# EAGLE library part ATTINY84A-SSF (library ATTINY84A-SSF)
Atmel ATTINY84A-SSF, 8bit AVR Microcontroller, 20MHz, 8 kB Flash, 14-Pin SOIC Source: Datasheet <http://ww1.microchip.com/downloads/en/DeviceDoc/8183S.pdf>
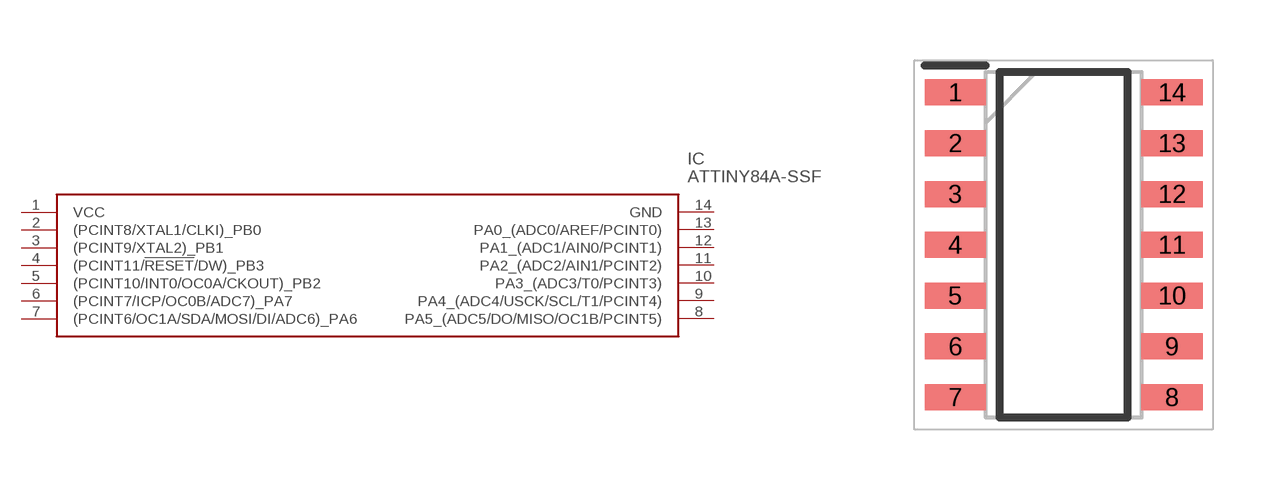
[diagram p0: symbol with the pads of SOIC127P600X175-14N; footprint SOIC127P600X175-14N]

Designator prefix IC

## ATTINY84A-SSF (Description: Atmel ATTINY84A-SSF, 8bit AVR Microcontroller, 20MHz, 8 kB Flash, 14-Pin SOIC; Height: 1.75mm; Manufacturer_Name: Microchip; Manufacturer_Part_Number: ATTINY84A-SSF; Mouser_Part_Number: 556-ATTINY84A-SSF; Mouser_Price-Stock: https://www.mouser.co.uk/ProductDetail/Microchip-Technology/ATTINY84A-SSF?qs=TI%2F9gtmDCEG4A0yxcpFhFg%3D%3D)  [SOIC127P600X175-14N]
1  VCC
2  (PCINT8/XTAL1/CLKI)_PB0
3  (PCINT9/XTAL2)_PB1
4  (PCINT11/!RESET!/DW)_PB3
5  (PCINT10/INT0/OC0A/CKOUT)_PB2
6  (PCINT7/ICP/OC0B/ADC7)_PA7
7  (PCINT6/OC1A/SDA/MOSI/DI/ADC6)_PA6
8  PA5_(ADC5/DO/MISO/OC1B/PCINT5)
9  PA4_(ADC4/USCK/SCL/T1/PCINT4)
10  PA3_(ADC3/T0/PCINT3)
11  PA2_(ADC2/AIN1/PCINT2)
12  PA1_(ADC1/AIN0/PCINT1)
13  PA0_(ADC0/AREF/PCINT0)
14  GND

## Footprint SOIC127P600X175-14N (pad centres in mm)
14S1 - SOIC
smd 1.528 x 0.65: 1 -2.711,3.81; 2 -2.711,2.54; 3 -2.711,1.27; 4 -2.711,0; 5 -2.711,-1.27; 6 -2.711,-2.54; 7 -2.711,-3.81; 8 2.711,-3.81; 9 2.711,-2.54; 10 2.711,-1.27; 11 2.711,0; 12 2.711,1.27; 13 2.711,2.54; 14 2.711,3.81